# Altium footprint library adafruit.PCBLIB: 643 footprints (part 33 of 41)
Each footprint in its own frame and in the unit in brackets; x right, y up, seen from the top. Pads: shape width x height; smd on the part's side, far side on the other; paste and mask are expansions set on the pad; w line width, h text height; cw(c..) or ccw(c..) is an arc to the next point about the centre after c.
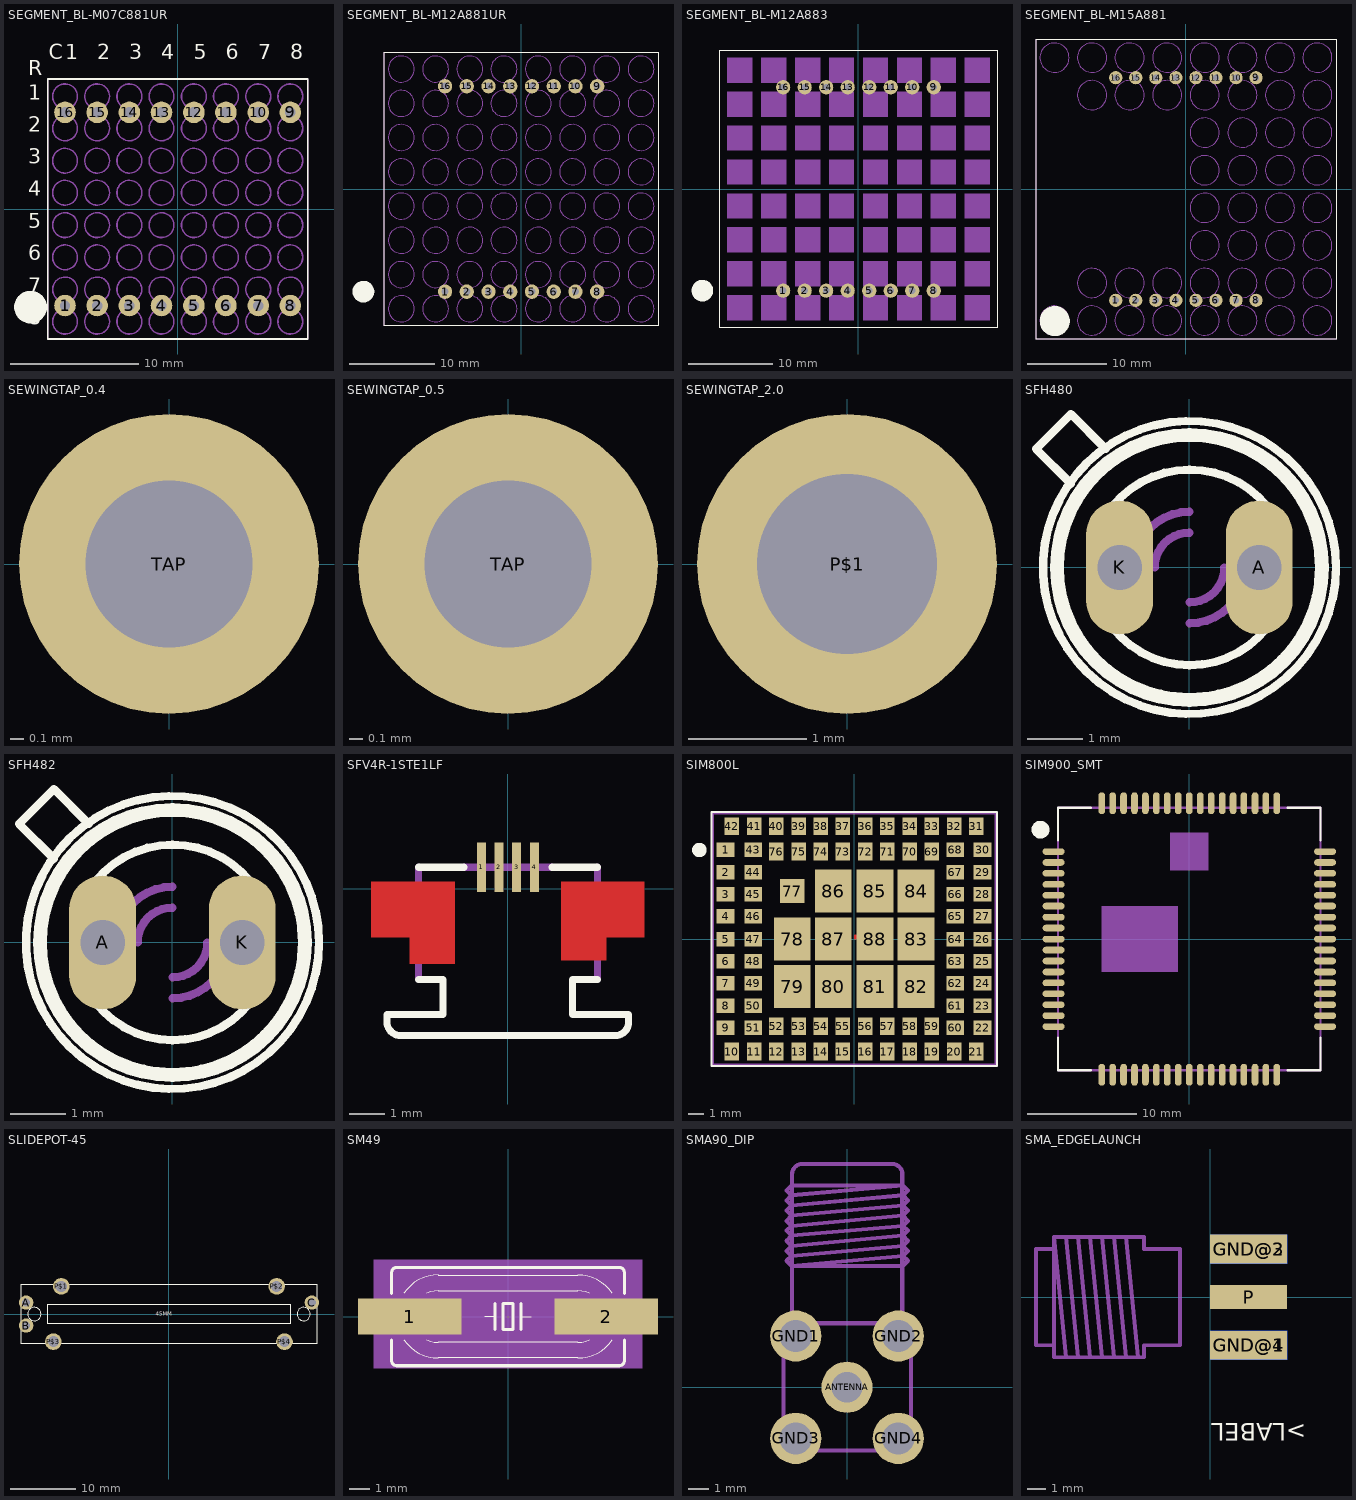
[diagram p32: the footprints below, top view; thin cyan lines are the x and y axes]

## SEGMENT_BL-M07C881UR [mil]
pads (16):
  round 66 hole 32: 1(-344.49,-295.28) 2(-246.06,-295.28) 3(-147.64,-295.28) 4(-49.21,-295.28) 5(50,-295.28) 6(148,-295.28) 7(247,-295.28) 8(345,-295.28) 9(345,296) 10(247,296) 11(148,296) 12(50,296) 13(-49.21,296) 14(-147.64,296) 15(-246.06,296) 16(-344.49,296)
Top Overlay:
  circle w50: c-450,-300 r25
  lines w5: -397.64,-397.64 398,-397.64 398,398 -397.64,398 -397.64,-397.64
  text "C" at -393.7,443 h77.5
  text "R" at -457.09,394 h77.5
  text "1" at -344.49,443 h77.5
  text "2" at -246.06,443 h77.5
  text "3" at -147.64,443 h77.5
  text "4" at -49.21,443 h77.5
  text "5" at 50,443 h77.5
  text "6" at 148,443 h77.5
  text "7" at 247,443 h77.5
  text "8" at 345,443 h77.5
  text "1" at -457.09,320 h77.5
  text "2" at -457.09,222 h77.5
  text "3" at -457.09,124 h77.5
  text "4" at -457.09,25 h77.5
  text "5" at -457.09,-73.82 h77.5
  text "6" at -457.09,-172.24 h77.5
  text "7" at -457.09,-270.67 h77.5
  text "8" at -457.09,-369.09 h77.5
Courtyard Bottom:
  circle w5: c-344.49,345 r38
  circle w5: c-246.06,345 r38
  circle w5: c-147.64,345 r38
  circle w5: c-49.21,345 r38
  circle w5: c50,345 r38
  circle w5: c148,345 r38
  circle w5: c247,345 r38
  circle w5: c345,345 r38
  circle w5: c-344.49,247 r38
  circle w5: c-246.06,247 r38
  circle w5: c-147.64,247 r38
  circle w5: c-49.21,247 r38
  circle w5: c50,247 r38
  circle w5: c148,247 r38
  circle w5: c247,247 r38
  circle w5: c345,247 r38
  circle w5: c-344.49,148 r38
  circle w5: c-246.06,148 r38
  circle w5: c-147.64,148 r38
  circle w5: c-49.21,148 r38
  circle w5: c50,148 r38
  circle w5: c148,148 r38
  circle w5: c247,148 r38
  circle w5: c345,148 r38
  circle w5: c-344.49,50 r38
  circle w5: c-246.06,50 r38
  circle w5: c-147.64,50 r38
  circle w5: c-49.21,50 r38
  circle w5: c50,50 r38
  circle w5: c148,50 r38
  circle w5: c247,50 r38
  circle w5: c345,50 r38
  circle w5: c-344.49,-49.21 r38
  circle w5: c-246.06,-49.21 r38
  circle w5: c-147.64,-49.21 r38
  circle w5: c-49.21,-49.21 r38
  circle w5: c50,-49.21 r38
  circle w5: c148,-49.21 r38
  circle w5: c247,-49.21 r38
  circle w5: c345,-49.21 r38
  circle w5: c-344.49,-147.64 r38
  circle w5: c-246.06,-147.64 r38
  circle w5: c-147.64,-147.64 r38
  circle w5: c-49.21,-147.64 r38
  circle w5: c50,-147.64 r38
  circle w5: c148,-147.64 r38
  circle w5: c247,-147.64 r38
  circle w5: c345,-147.64 r38
  circle w5: c-344.49,-246.06 r38
  circle w5: c-246.06,-246.06 r38
  circle w5: c-147.64,-246.06 r38
  circle w5: c-49.21,-246.06 r38
  circle w5: c50,-246.06 r38
  circle w5: c148,-246.06 r38
  circle w5: c247,-246.06 r38
  circle w5: c345,-246.06 r38
  circle w5: c-344.49,-344.49 r38
  circle w5: c-246.06,-344.49 r38
  circle w5: c-147.64,-344.49 r38
  circle w5: c-49.21,-344.49 r38
  circle w5: c50,-344.49 r38
  circle w5: c148,-344.49 r38
  circle w5: c247,-344.49 r38
  circle w5: c345,-344.49 r38
  lines w5: -397.64,-397.64 398,-397.64 398,398 -397.64,398 -397.64,-397.64

## SEGMENT_BL-M12A881UR [mil]
pads (16):
  round 66 hole 32: 1(-350,-472.44) 2(-250,-472.44) 3(-150,-472.44) 4(-50,-472.44) 5(50,-472.44) 6(150,-472.44) 7(250,-472.44) 8(350,-472.44) 9(350,473) 10(250,473) 11(150,473) 12(50,473) 13(-50,473) 14(-150,473) 15(-250,473) 16(-350,473)
Top Overlay:
  circle w50: c-725.59,-472.44 r25
  lines w5: -629.92,-629.92 630,-629.92 630,630 -629.92,630 -629.92,-629.92
Courtyard Bottom:
  circle w5: c-551.18,552 r60
  circle w5: c-393.7,552 r60
  circle w5: c-236.22,552 r60
  circle w5: c-78.74,552 r60
  circle w5: c79,552 r60
  circle w5: c237,552 r60
  circle w5: c394,552 r60
  circle w5: c552,552 r60
  circle w5: c-551.18,394 r60
  circle w5: c-393.7,394 r60
  circle w5: c-236.22,394 r60
  circle w5: c-78.74,394 r60
  circle w5: c79,394 r60
  circle w5: c237,394 r60
  circle w5: c394,394 r60
  circle w5: c552,394 r60
  circle w5: c-551.18,237 r60
  circle w5: c-393.7,237 r60
  circle w5: c-236.22,237 r60
  circle w5: c-78.74,237 r60
  circle w5: c79,237 r60
  circle w5: c237,237 r60
  circle w5: c394,237 r60
  circle w5: c552,237 r60
  circle w5: c-551.18,79 r60
  circle w5: c-393.7,79 r60
  circle w5: c-236.22,79 r60
  circle w5: c-78.74,79 r60
  circle w5: c79,79 r60
  circle w5: c237,79 r60
  circle w5: c394,79 r60
  circle w5: c552,79 r60
  circle w5: c-551.18,-78.74 r60
  circle w5: c-393.7,-78.74 r60
  circle w5: c-236.22,-78.74 r60
  circle w5: c-78.74,-78.74 r60
  circle w5: c79,-78.74 r60
  circle w5: c237,-78.74 r60
  circle w5: c394,-78.74 r60
  circle w5: c552,-78.74 r60
  circle w5: c-551.18,-236.22 r60
  circle w5: c-393.7,-236.22 r60
  circle w5: c-236.22,-236.22 r60
  circle w5: c-78.74,-236.22 r60
  circle w5: c79,-236.22 r60
  circle w5: c237,-236.22 r60
  circle w5: c394,-236.22 r60
  circle w5: c552,-236.22 r60
  circle w5: c-551.18,-393.7 r60
  circle w5: c-393.7,-393.7 r60
  circle w5: c-236.22,-393.7 r60
  circle w5: c-78.74,-393.7 r60
  circle w5: c79,-393.7 r60
  circle w5: c237,-393.7 r60
  circle w5: c394,-393.7 r60
  circle w5: c552,-393.7 r60
  circle w5: c-551.18,-551.18 r60
  circle w5: c-393.7,-551.18 r60
  circle w5: c-236.22,-551.18 r60
  circle w5: c-78.74,-551.18 r60
  circle w5: c79,-551.18 r60
  circle w5: c237,-551.18 r60
  circle w5: c394,-551.18 r60
  circle w5: c552,-551.18 r60
  lines w5: -629.92,-629.92 630,-629.92 630,630 -629.92,630 -629.92,-629.92

## SEGMENT_BL-M12A883 [mil]
pads (16):
  round 66 hole 32: 1(-350,-472.44) 2(-250,-472.44) 3(-150,-472.44) 4(-50,-472.44) 5(50,-472.44) 6(150,-472.44) 7(250,-472.44) 8(350,-472.44) 9(350,473) 10(250,473) 11(150,473) 12(50,473) 13(-50,473) 14(-150,473) 15(-250,473) 16(-350,473)
Top Overlay:
  circle w50: c-725.59,-472.44 r25
  lines w5: -643.7,-643.7 644,-643.7 644,644 -643.7,644 -643.7,-643.7
Courtyard Bottom:
  rectangle: -610.24,493 -492.13,611
  rectangle: -452.76,493 -334.65,611
  rectangle: -295.28,493 -177.17,611
  rectangle: -137.8,493 -19.68,611
  rectangle: 20,493 138,611
  rectangle: 178,493 296,611
  rectangle: 335,493 453,611
  rectangle: 493,493 611,611
  rectangle: 493,335 611,453
  rectangle: 335,335 453,453
  rectangle: 178,335 296,453
  rectangle: 20,335 138,453
  rectangle: -137.8,335 -19.68,453
  rectangle: -295.28,335 -177.17,453
  rectangle: -610.24,335 -492.13,453
  rectangle: -452.76,335 -334.65,453
  rectangle: -610.24,178 -492.13,296
  rectangle: -452.76,178 -334.65,296
  rectangle: -295.28,178 -177.17,296
  rectangle: -137.8,178 -19.68,296
  rectangle: 20,178 138,296
  rectangle: 178,178 296,296
  rectangle: 335,178 453,296
  rectangle: 493,178 611,296
  rectangle: 493,20 611,138
  rectangle: 493,-137.8 611,-19.68
  rectangle: 335,-137.8 453,-19.68
  rectangle: 335,20 453,138
  rectangle: 178,20 296,138
  rectangle: 20,20 138,138
  rectangle: -137.8,20 -19.68,138
  rectangle: -295.28,20 -177.17,138
  rectangle: -452.76,20 -334.65,138
  rectangle: -610.24,20 -492.13,138
  rectangle: -610.24,-137.8 -492.13,-19.68
  rectangle: -452.76,-137.8 -334.65,-19.68
  rectangle: -295.28,-137.8 -177.17,-19.68
  rectangle: -137.8,-137.8 -19.68,-19.68
  rectangle: 20,-137.8 138,-19.68
  rectangle: 178,-137.8 296,-19.68
  rectangle: 493,-295.28 611,-177.17
  rectangle: 335,-295.28 453,-177.17
  rectangle: -610.24,-295.28 -492.13,-177.17
  rectangle: -452.76,-295.28 -334.65,-177.17
  rectangle: -295.28,-295.28 -177.17,-177.17
  rectangle: -137.8,-295.28 -19.68,-177.17
  rectangle: 20,-295.28 138,-177.17
  rectangle: 178,-295.28 296,-177.17
  rectangle: 493,-452.76 611,-334.65
  rectangle: 335,-452.76 453,-334.65
  rectangle: -610.24,-452.76 -492.13,-334.65
  rectangle: -452.76,-452.76 -334.65,-334.65
  rectangle: -295.28,-452.76 -177.17,-334.65
  rectangle: -137.8,-452.76 -19.68,-334.65
  rectangle: 20,-452.76 138,-334.65
  rectangle: 178,-452.76 296,-334.65
  rectangle: 493,-610.24 611,-492.13
  rectangle: 335,-610.24 453,-492.13
  rectangle: -610.24,-610.24 -492.13,-492.13
  rectangle: -452.76,-610.24 -334.65,-492.13
  rectangle: -295.28,-610.24 -177.17,-492.13
  rectangle: -137.8,-610.24 -19.68,-492.13
  rectangle: 20,-610.24 138,-492.13
  rectangle: 178,-610.24 296,-492.13
  lines w5: -643.7,-643.7 644,-643.7 644,644 -643.7,644 -643.7,-643.7

## SEGMENT_BL-M15A881 [mil]
pads (16):
  round 66 hole 32: 1(-350,-555.12) 2(-250,-555.12) 3(-150,-555.12) 4(-50,-555.12) 5(50,-555.12) 6(150,-555.12) 7(250,-555.12) 8(350,-555.12) 9(350,556) 10(250,556) 11(150,556) 12(50,556) 13(-50,556) 14(-150,556) 15(-250,556) 16(-350,556)
Top Overlay:
  circle w100: c-654.33,-658.66 r25
  lines w5: -748.03,-748.03 749,-748.03 749,749 -748.03,749 -748.03,-748.03
Courtyard Bottom:
  circle w5: c-281.1,469 r73
  circle w5: c-93.7,469 r73
  circle w5: c94,469 r73
  circle w5: c282,469 r73
  circle w5: c469,469 r73
  circle w5: c-468.5,469 r73
  circle w5: c-281.1,656 r73
  circle w5: c-93.7,656 r73
  circle w5: c94,656 r73
  circle w5: c282,656 r73
  circle w5: c469,656 r73
  circle w5: c-468.5,656 r73
  circle w5: c-655.91,656 r73
  circle w5: c94,282 r73
  circle w5: c282,282 r73
  circle w5: c469,282 r73
  circle w5: c94,94 r73
  circle w5: c282,94 r73
  circle w5: c469,94 r73
  circle w5: c94,-93.7 r73
  circle w5: c282,-93.7 r73
  circle w5: c469,-93.7 r73
  circle w5: c94,-281.1 r73
  circle w5: c282,-281.1 r73
  circle w5: c469,-281.1 r73
  circle w5: c-281.1,-468.5 r73
  circle w5: c-93.7,-468.5 r73
  circle w5: c94,-468.5 r73
  circle w5: c282,-468.5 r73
  circle w5: c469,-468.5 r73
  circle w5: c-468.5,-468.5 r73
  circle w5: c-281.1,-655.91 r73
  circle w5: c-93.7,-655.91 r73
  circle w5: c94,-655.91 r73
  circle w5: c282,-655.91 r73
  circle w5: c469,-655.91 r73
  circle w5: c-468.5,-655.91 r73
  circle w5: c-655.91,-655.91 r73
  circle w5: c656,-93.7 r73
  circle w5: c656,94 r73
  circle w5: c656,282 r73
  circle w5: c656,469 r73
  circle w5: c656,656 r73
  circle w5: c656,-281.1 r73
  circle w5: c656,-468.5 r73
  circle w5: c656,-655.91 r73
  lines w5: -748.03,-748.03 749,-748.03 749,749 -748.03,749 -748.03,-748.03

## SEWINGTAP_0.4 [mil]
pads (1):
  round 86 hole 48: TAP(0,0)
Top Layer:
  region: 0,0 10,0 10,10 0,10
Top Solder:
  region: 0,0 10,0 10,10 0,10

## SEWINGTAP_0.5 [mil]
pads (1):
  round 86 hole 48: TAP(0,0)
Top Layer:
  region: 0,0 10,0 10,10 0,10
Bottom Layer:
  region: 0,0 10,0 10,10 0,10
Top Solder:
  region: 0,0 10,0 10,10 0,10
Bottom Solder:
  region: 0,0 10,0 10,10 0,10

## SEWINGTAP_2.0 [mil]
pads (1):
  round 100 hole 60: P$1(0,0)
Top Layer:
  region: 0,0 10,0 10,10 0,10
Bottom Layer:
  region: 0,0 10,0 10,10 0,10
Top Solder:
  region: 0,0 10,0 10,10 0,10
Bottom Solder:
  region: 0,0 10,0 10,10 0,10

## SFH480 [mil]
pads (2):
  oval 48x96 hole 32: A(50,0) K(-50,0)
Top Overlay:
  circle w6: c0,0 r105
  circle w10: c0,0 r95
  lines w6: -85,60 -110,85 -85,110 -60,85 ; -60.46,-35.27 ccw(c0,0) 0,-70 ccw(c0.27,0.47) 61,-35.27 ; -60.46,36 cw(c-0.63,0.36) 0,70 cw(c0.9,-0.1) 61,36
Courtyard Bottom:
  lines w6: -59.61,-36.68 cw(c0,0) -70,0 cw(c0.72,0.21) -59.06,38 ; -40,0 cw(c0,0) 0,40 ; -25,0 cw(c0,0) 0,25 ; 0,-40 ccw(c0,0) 40,0 ; 0,-25 ccw(c0,0) 25,0 ; 60,-37.58 ccw(c0.47,-1.62) 70,0 ccw(c-0.36,0.83) 60,37

## SFH482 [mil]
pads (2):
  oval 48x96 hole 32: A(-50,0) K(50,0)
Top Overlay:
  circle w6: c0,0 r105
  circle w10: c0,0 r95
  lines w6: -85,60 -110,85 -85,110 -60,85 ; -60.46,-35.27 ccw(c0,0) 0,-70 ccw(c0.27,0.47) 61,-35.27 ; -60.46,36 cw(c-0.63,0.36) 0,70 cw(c0.9,-0.1) 61,36
Courtyard Bottom:
  lines w6: -59.61,-36.68 cw(c0,0) -70,0 cw(c0.72,0.21) -59.06,38 ; -40,0 cw(c0,0) 0,40 ; -25,0 cw(c0,0) 0,25 ; 0,-40 ccw(c0,0) 40,0 ; 0,-25 ccw(c0,0) 25,0 ; 60,-37.58 ccw(c0.47,-1.62) 70,0 ccw(c-0.36,0.83) 60,37

## SFV4R-1STE1LF [mil]
pads (4):
  rect 10x56 smd: 1(-29.53,24) 2(-9.84,24) 3(10,24) 4(30,24)
Top Layer:
  rectangle: -153.54,-55.12 -59.06,8
  rectangle: -110.24,-84.65 -59.06,-51.18
  rectangle: 60,-55.12 154,8
  rectangle: 60,-80.71 111,-47.24
Top Overlay:
  lines w8: -100.39,-102.36 -72.83,-102.36 -72.83,-141.73 -135.83,-141.73 -135.83,-149.61 ccw(c-120.08,-149.61) -120.08,-165.35 121,-165.35 ccw(c120.63,-149.98) 136,-149.61 136,-141.73 73,-141.73 73,-102.36 101,-102.36 ; -100.39,24 -49.21,24 ; 50,24 101,24
Top Paste:
  rectangle: -168.31,-74.8 -82.68,3
  rectangle: -125.98,-108.27 -82.68,-74.8
  rectangle: 83,-74.8 169,3
  rectangle: 83,-108.27 126,-74.8
Top Solder:
  rectangle: -110.24,-84.65 -59.06,-51.18
  rectangle: -35.43,-3.94 -23.62,52
  rectangle: -15.75,-3.94 -3.94,52
  rectangle: 4,-3.94 16,52
  rectangle: 24,-3.94 36,52
  rectangle: -153.54,-55.12 -59.06,8
  rectangle: 60,-55.12 154,8
  rectangle: 60,-82.68 111,-55.12
Courtyard Bottom:
  lines w8: -100.39,-102.36 -100.39,24 ; -49.21,24 50,24 ; 101,-102.36 101,24
  lines w20: -137.8,-39.37 -106.3,-39.37 -106.3,-5.91 -137.8,-5.91 ; 138,-39.37 107,-39.37 107,-5.91 138,-5.91

## SIM800L [mil]
pads (88):
  rect 44x36 smd: 1(-318.9,221) 2(-318.9,166) 3(-318.9,111) 4(-318.9,56) 5(-318.9,0) 6(-318.9,-55.12) 7(-318.9,-110.24) 8(-318.9,-165.35) 9(-318.9,-220.47) 22(319,-220.47) 23(319,-165.35) 24(319,-110.24) 25(319,-55.12) 26(319,0) 27(319,56) 28(319,111) 29(319,166) 30(319,221) 43(-250.39,221) 44(-250.39,166) 45(-250.39,111) 46(-250.39,56) 47(-250.39,0) 48(-250.39,-55.12) 49(-250.39,-110.24) 50(-250.39,-165.35) 51(-250.39,-220.47) 60(251,-220.47) 61(251,-165.35) 62(251,-110.24) 63(251,-55.12) 64(251,0) 65(251,56) 66(251,111) 67(251,166) 68(251,221)
  rect 36x44 smd: 10(-303.15,-279.53) 11(-248.03,-279.53) 12(-192.91,-279.53) 13(-137.8,-279.53) 14(-82.68,-279.53) 15(-27.56,-279.53) 16(28,-279.53) 17(83,-279.53) 18(138,-279.53) 19(193,-279.53) 20(249,-279.53) 21(304,-279.53) 31(304,280) 32(249,280) 33(193,280) 34(138,280) 35(83,280) 36(28,280) 37(-27.56,280) 38(-82.68,280) 39(-137.8,280) 40(-192.91,280) 41(-248.03,280) 42(-303.15,280) 52(-192.91,-216.54) 53(-137.8,-216.54) 54(-82.68,-216.54) 55(-27.56,-216.54) 56(28,-216.54) 57(83,-216.54) 58(138,-216.54) 59(193,-216.54) 69(193,217) 70(138,217) 71(83,217) 72(28,217) 73(-27.56,217) 74(-82.68,217) 75(-137.8,217) 76(-192.91,217)
  rect 60x60 smd: 77(-153.54,119)
  rect 91x107 smd: 78(-153.54,0) 79(-153.54,-118.11) 80(-51.18,-118.11) 81(52,-118.11) 82(154,-118.11) 83(154,0) 84(154,119) 85(52,119) 86(-51.18,119) 87(-51.18,0) 88(52,0)
Top Layer:
  region: 0,0 10,0 10,10 0,10
Top Overlay:
  circle w24: c-383.86,221 r6
  lines w5: -354.33,-314.96 355,-314.96 355,315 -354.33,315 -354.33,-314.96
Courtyard Bottom:
  lines w5: -350.39,-311.02 -350.39,312 351,312 351,-311.02 -350.39,-311.02

## SIM900_SMT [mil]
pads (68):
  rrect100% 79x24 smd: P$1(-488.19,315) P$2(-488.19,276) P$3(-488.19,237) P$4(-488.19,197) P$5(-488.19,158) P$6(-488.19,119) P$7(-488.19,79) P$8(-488.19,40) P$9(-488.19,0) P$10(-488.19,-39.37) P$11(-488.19,-78.74) P$12(-488.19,-118.11) P$13(-488.19,-157.48) P$14(-488.19,-196.85) P$15(-488.19,-236.22) P$16(-488.19,-275.59) P$17(-488.19,-314.96) P$35(489,-314.96) P$36(489,-275.59) P$37(489,-236.22) P$38(489,-196.85) P$39(489,-157.48) P$40(489,-118.11) P$41(489,-78.74) P$42(489,-39.37) P$43(489,0) P$44(489,40) P$45(489,79) P$46(489,119) P$47(489,158) P$48(489,197) P$49(489,237) P$50(489,276) P$51(489,315)
  rrect100% 24x79 smd: P$18(-314.96,-488.19) P$19(-275.59,-488.19) P$20(-236.22,-488.19) P$21(-196.85,-488.19) P$22(-157.48,-488.19) P$23(-118.11,-488.19) P$24(-78.74,-488.19) P$25(-39.37,-488.19) P$26(0,-488.19) P$27(40,-488.19) P$28(79,-488.19) P$29(119,-488.19) P$30(158,-488.19) P$31(197,-488.19) P$32(237,-488.19) P$33(276,-488.19) P$34(315,-488.19) P$52(315,489) P$53(276,489) P$54(237,489) P$55(197,489) P$56(158,489) P$57(119,489) P$58(79,489) P$59(40,489) P$60(0,489) P$61(-39.37,489) P$62(-78.74,489) P$63(-118.11,489) P$64(-157.48,489) P$65(-196.85,489) P$66(-236.22,489) P$67(-275.59,489) P$68(-314.96,489)
Top Overlay:
  circle w32: c-535.43,394 r16
  lines w8: -472.44,-354.33 -472.44,-472.44 -354.33,-472.44 ; -472.44,355 -472.44,473 -354.33,473 ; 355,-472.44 473,-472.44 473,-354.33 ; 355,473 473,473 473,355
Courtyard Bottom:
  lines w8: -472.44,-472.44 -472.44,473 473,473 473,-472.44 -472.44,-472.44
Mech37:
  rectangle: -314.96,-118.11 -39.37,119
  rectangle: -68.9,247 69,384

## SLIDEPOT-45 [mil]
pads (7):
  round 86 hole 48: A(-856.3,69) B(-856.3,-68.9) C(857,69)
  round 100 hole 67: P$1(-645.67,166) P$2(646,166) P$3(-692.91,-165.35) P$4(693,-165.35)
Top Overlay:
  circle w5: c-807.09,0 r40
  circle w5: c808,0 r40
  lines w5: -885.83,-177.17 886,-177.17 886,178 -885.83,178 -885.83,-177.17 ; -728.35,-59.06 729,-59.06 729,60 -728.35,60 -728.35,-59.06
  text "45MM" at -78.74,-19.68 h42.5

## SM49 [mil]
pads (2):
  rect 200x70 smd: 1(-190,0) 2(190,0)
Top Overlay:
  lines w2: -201.15,-45 ccw(c-135,0) -135,-80 135,-80 ccw(c135.42,0.81) 202,-45 ; -201.15,45 cw(c-134.06,0.5) -135,81 ; -156.8,-45 ccw(c-135,0) -135,-50 135,-50 ccw(c135.1,0.45) 157,-45 ; -156.8,45 cw(c-135,0) -135,50 135,50 cw(c135.1,-0.45) 157,45 ; -135,80 135,80 cw(c135.43,-0.81) 202,45 ; -45,0 -25,0 ; 25,0 45,0
  lines w6: -225,-45 -225,-85 ccw(c-215,-85) -215,-95 215,-95 ccw(c215,-85) 225,-85 225,-45 ; -225,45 -225,85 cw(c-215,85) -215,95 215,95 cw(c215,85) 225,85 225,45 ; -25,-25 -25,0 -25,25 ; 25,-25 25,0 25,25 ; -10,-25 -10,25 10,25 10,-25 -10,-25
Mechanical 10:
  rectangle: -260,-100 260,110
Courtyard Bottom:
  lines w2: -201.15,-45 cw(c-135,0) -201.15,45 ; -156.8,-45 cw(c-135,0) -156.8,45 ; 157,-45 ccw(c135.2,0) 157,45 ; 202,-45 ccw(c135.85,0) 202,45
  lines w6: -225,-45 -225,45 ; -225,-15 -255,-15 -255,15 -225,15 ; 225,-45 225,-15 ; 225,45 225,15 ; 225,-15 225,15 ; 225,-15 255,-15 255,15 225,15

## SMA90_DIP [mil]
pads (5):
  round 100 hole 60: ANTENNA(0,0)
  round 100 hole 63: GND1(-100,100) GND2(100,100) GND3(-100,-100) GND4(100,-100)
Courtyard Bottom:
  lines w8: -107.28,125 -107.28,416 ; -107.09,416 cw(c-87.54,416.45) -87.99,436 ; -87.6,436 88,436 ; 89,436 cw(c88.5,416.5) 108,416 108,125 ; -108.27,237 -118.11,247 -108.27,256 ; -108.27,237 109,256 ; -108.27,237 109,237 119,247 109,256 ; -108.27,256 -118.11,266 -108.27,276 ; -108.27,256 109,276 ; -108.27,276 -118.11,286 -108.27,296 ; -108.27,276 109,296 ; -108.27,296 -118.11,306 -108.27,315 ; -108.27,296 109,315 ; -108.27,315 -118.11,325 -108.27,335 ; -108.27,315 109,335 ; -108.27,335 -118.11,345 -108.27,355 ; -108.27,335 109,355 ; -108.27,355 -118.11,365 -108.27,375 ; -108.27,355 109,375 ; -108.27,375 -118.11,384 -108.27,394 109,394 ; -108.27,375 109,394 ; 109,256 119,266 109,276 ; 109,276 119,286 109,296 ; 109,296 119,306 109,315 ; 109,315 119,325 109,335 ; 109,335 119,345 109,355 ; 109,355 119,365 109,375 ; 109,375 119,384 109,394 ; -124.02,-99.21 ccw(c-99.21,-99.21) -99.21,-124.02 100,-124.02 ccw(c100.1,-99.11) 125,-99.21 125,100 ccw(c100,100) 100,125 -99.21,125 ccw(c-99.11,100.1) -124.02,100 -124.02,-99.21

## SMA_EDGELAUNCH [mil]
pads (5):
  rect 160x60 smd: GND@1(80,-100) GND@2(80,100)
  rect 160x60 smd far side: GND@3(80,100) GND@4(80,-100)
  rect 160x50 smd: P(80,0)
Top Overlay:
  text ">LABEL" at 200,-250 h62
Courtyard Bottom:
  rectangle: 0,-12.5 125,13
  region: 0,0 10,0 10,10 0,10
  region: 0,0 10,0 10,10 0,10
  lines w8: -150,-125 -175,125 ; -325,-100 -325,-125 -300,-125 ; -325,-100 -362.5,-100 -362.5,100 -325,100 ; -325,-100 -325,100 ; -325,100 -325,125 ; -325,125 -300,125 ; -325,125 -300,-125 ; -300,-125 -275,-125 ; -300,125 -275,125 ; -300,125 -275,-125 ; -275,-125 -250,-125 ; -275,125 -250,125 ; -275,125 -250,-125 ; -250,-125 -225,-125 ; -250,125 -225,125 ; -250,125 -225,-125 ; -225,-125 -200,-125 ; -225,125 -200,125 ; -225,125 -200,-125 ; -200,-125 -175,-125 ; -200,125 -175,125 ; -200,125 -175,-125 ; -175,-125 -137.5,-125 -137.5,-100 -62.5,-100 -62.5,100 -137.5,100 -137.5,125 -175,125